# Altium schematic symbol library PCM5102APWR.SchLib: 1 symbol
Pins are listed as number, name and electrical type; pins without a type are passive.

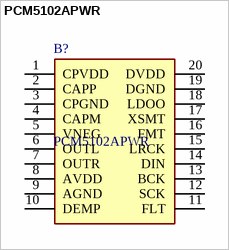
[diagram p0: symbol PCM5102APWR]

## PCM5102APWR
designator B?
2VRMS DirectPath, 112dB Audio Stereo DAC with 32-bit, 384kHz PCM Interface; Manufacturer_Name: Texas Instruments; Geometry.Height: 1.2mm; Mouser Part Number: 595-PCM5102APWR; Mouser Price/Stock: https://www.mouser.co.uk/ProductDetail/Texas-Instruments/PCM5102APWR?qs=E2%2FxqS9xjzrfECkwEYoiyg%3D%3D; Manufacturer_Part_Number: PCM5102APWR; Datasheet Link: https://componentsearchengine.com/Datasheets/2/PCM5102APWR.pdf
footprint SOP65P640X120-20N
pins: 1 CPVDD, 2 CAPP, 3 CPGND, 4 CAPM, 5 VNEG, 6 OUTL, 7 OUTR, 8 AVDD, 9 AGND, 10 DEMP, 11 FLT, 12 SCK, 13 BCK, 14 DIN, 15 LRCK, 16 FMT, 17 XSMT, 18 LDOO, 19 DGND, 20 DVDD